# Altium schematic symbol library U.FL-R-SMT-1.Schlib: 1 symbol
Pins are listed as number, name and electrical type; pins without a type are passive.

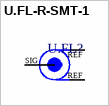
[diagram p0: symbol U.FL-R-SMT-1]

## U.FL-R-SMT-1
designator U.FL?
U.FL-R-SMT-1 Hirose Electric RF Connectors U.FL 0Hz to 6GHz 50Ohm
pins: 1 SIG, 2 GND, 3 GND
text: REF